# Altium integrated library lib_amass.IntLib: 1 symbol
Pins are listed as number, name and electrical type; pins without a type are passive.

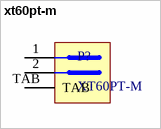
[diagram p0: symbol xt60pt-m]

## xt60pt-m
designator P?, comment XT60PT-M
footprint XT60PT-M
pins: 1, 2, TAB